# Altium schematic symbol library Diode (2).SchLib: 11 symbols
Pins are listed as number, name and electrical type; pins without a type are passive.

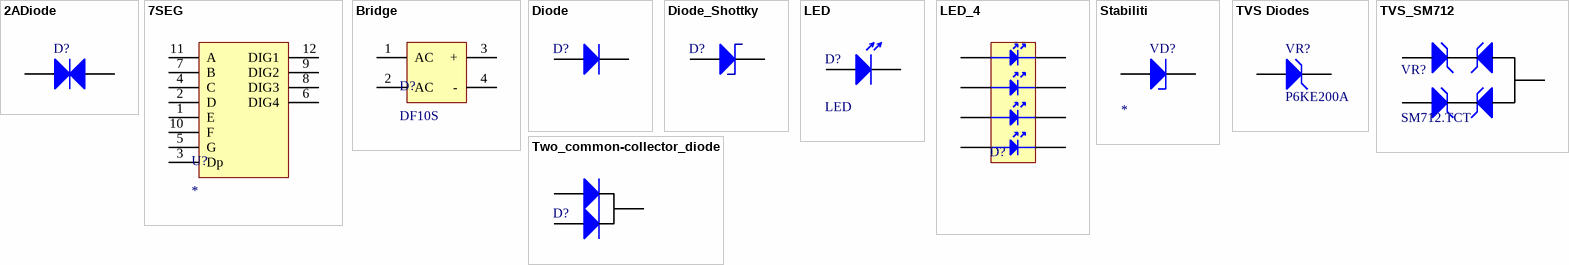
[diagram p0: symbols 2ADiode to Two_common-collector_diode]

## 2ADiode
designator D?, comment 2Anode_Diode  (value not drawn)
Diode; Value: 1.5KE400CA; Published: 8-Jun-2000; LatestRevisionDate: 17-Jul-2002; LatestRevisionNote: Re-released for DXP Platform.; PackageVersion: Aug-1999; PackageReference: DO-41; Publisher: Altium Limited; PackageDescription: Diode, Axial; Body 5.2 x 2.7 mm (LxDia. max), Lead Dia. 0.86 mm (max); Code_JEDEC: DO-204-AL; ComponentLink1Description: Manufacturer Link; ComponentLink1URL: http://www.fairchildsemi.com/; ComponentLink2URL: http://www.fairchildsemi.com/ds/1N%2F1N4001.pdf; ComponentLink2Description: Datasheet; DatasheetVersion: 1998
simulation model 1N4001 (DIODE)
signal-integrity model 1N4001
footprint 1.5KE400CA
footprint KC213
pins: 1, 2

## 7SEG
designator U?
footprint 7seg_GNQ-5641
footprint 7seg_GNT-2831BD
pins: 1 E, 2 D, 3 Dp, 4 C, 5 G, 6 DIG4, 7 B, 8 DIG3, 9 DIG2, 10 F, 11 A, 12 DIG1

## Bridge
designator D?, comment DF10S
Bridge; Value: DF10S
footprint D_MB10S
footprint D_1000V_10A
footprint D_BR1010
footprint D_DF10S
footprint D_GBJ
footprint W10G
pins: 1 AC, 2 AC, 3 +, 4 -

## Diode
designator D?
Diode; Published: 8-Jun-2000; LatestRevisionDate: 17-Jul-2002; LatestRevisionNote: Re-released for DXP Platform.; PackageVersion: Aug-1999; PackageReference: DO-41; Publisher: Altium Limited; PackageDescription: Diode, Axial; Body 5.2 x 2.7 mm (LxDia. max), Lead Dia. 0.86 mm (max); Code_JEDEC: DO-204-AL; ComponentLink1Description: Manufacturer Link; ComponentLink1URL: http://www.fairchildsemi.com/; ComponentLink2URL: http://www.fairchildsemi.com/ds/1N%2F1N4001.pdf; ComponentLink2Description: Datasheet; DatasheetVersion: 1998
simulation model 1N4001 (DIODE)
signal-integrity model 1N4001
footprint 150EBU04
footprint D_0805
footprint D_1206 (MELF Diode, 2-Leads, Body 3,5x1,7mm, IPC Medium Density)
footprint HFA15TB60PBF
footprint KC213
footprint SMA_diode (Molded Diode, 2-Leads, Body 4,3x2,6mm, IPC Medium Density)
footprint DO-41
footprint SOD-80
footprint SMC_diode
footprint D2PAK
footprint SMB_diode (Molded Diode, 2-Leads, Body 4,3x2,6mm, IPC Medium Density)
footprint 1.5KE400CA
footprint DO-15
footprint DO-201AD
footprint DO-201AE
footprint DO-204
footprint SOD-923
footprint SOT-23_D (SOT23, 3-Leads, Body 3,0x2,6mm (max), Pitch 0,95mm, IPC Medium Density)
pins: a A, k K

## Diode_Shottky
designator D?
Diode; Published: 8-Jun-2000; LatestRevisionDate: 17-Jul-2002; LatestRevisionNote: Re-released for DXP Platform.; PackageVersion: Aug-1999; PackageReference: DO-41; Publisher: Altium Limited; PackageDescription: Diode, Axial; Body 5.2 x 2.7 mm (LxDia. max), Lead Dia. 0.86 mm (max); Code_JEDEC: DO-204-AL; ComponentLink1Description: Manufacturer Link; ComponentLink1URL: http://www.fairchildsemi.com/; ComponentLink2URL: http://www.fairchildsemi.com/ds/1N%2F1N4001.pdf; ComponentLink2Description: Datasheet; DatasheetVersion: 1998
signal-integrity model 1N4001
footprint D_0805
footprint D_1206 (MELF Diode, 2-Leads, Body 3,5x1,7mm, IPC Medium Density)
footprint SMA_diode (Molded Diode, 2-Leads, Body 4,3x2,6mm, IPC Medium Density)
footprint SOD-80
footprint SOT-23_D (SOT23, 3-Leads, Body 3,0x2,6mm (max), Pitch 0,95mm, IPC Medium Density)
footprint SOD-923
footprint SMB_diode (Molded Diode, 2-Leads, Body 4,3x2,6mm, IPC Medium Density)
footprint D2PAK
footprint TO-247
pins: a A, k K

## LED
designator D?
Published: 8-Jun-2000; LatestRevisionDate: 17-Jul-2002; LatestRevisionNote: Re-released for DXP Platform.; PackageVersion: Aug-1999; PackageReference: DO-41; Publisher: Altium Limited; PackageDescription: Diode, Axial; Body 5.2 x 2.7 mm (LxDia. max), Lead Dia. 0.86 mm (max); Code_JEDEC: DO-204-AL; ComponentLink1Description: Manufacturer Link; ComponentLink1URL: http://www.fairchildsemi.com/; ComponentLink2URL: http://www.fairchildsemi.com/ds/1N%2F1N4001.pdf; ComponentLink2Description: Datasheet; DatasheetVersion: 1998
footprint LED_0805
pins: a A, k K

## LED_4
designator D?
LED; Published: 8-Jun-2000; LatestRevisionDate: 17-Jul-2002; LatestRevisionNote: Re-released for DXP Platform.; PackageVersion: Aug-1999; PackageReference: DO-41; Publisher: Altium Limited; PackageDescription: Diode, Axial; Body 5.2 x 2.7 mm (LxDia. max), Lead Dia. 0.86 mm (max); Code_JEDEC: DO-204-AL; ComponentLink1Description: Manufacturer Link; ComponentLink1URL: http://www.fairchildsemi.com/; ComponentLink2URL: http://www.fairchildsemi.com/ds/1N%2F1N4001.pdf; ComponentLink2Description: Datasheet; DatasheetVersion: 1998
footprint LED
pins: 1 A, 2 A, 3 A, 4 A, 5 A, 6 A, 7 A, 8 A

## Stabiliti
designator VD?
Stabiliti; Published: 8-Jun-2000; LatestRevisionDate: 17-Jul-2002; LatestRevisionNote: Re-released for DXP Platform.; PackageVersion: Aug-1999; PackageReference: DO-41; Publisher: Altium Limited; PackageDescription: Diode, Axial; Body 5.2 x 2.7 mm (LxDia. max), Lead Dia. 0.86 mm (max); Code_JEDEC: DO-204-AL; ComponentLink1Description: Manufacturer Link; ComponentLink1URL: http://www.fairchildsemi.com/; ComponentLink2URL: http://www.fairchildsemi.com/ds/1N%2F1N4001.pdf; ComponentLink2Description: Datasheet; DatasheetVersion: 1998; Value: *; Power: *
simulation model 1N4001 (DIODE)
signal-integrity model 1N4001
footprint SOT-23 (SOT23, 3-Leads, Body 3,0x2,6mm (max), Pitch 0,95mm, IPC Medium Density)
footprint D_1206 (MELF Diode, 2-Leads, Body 3,5x1,7mm, IPC Medium Density)
footprint SOD-80
footprint DO-204
footprint DO-41
pins: a A, k K

## TVS Diodes
designator VR?, comment P6KE200A
TVS Diodes - Transient Voltage Suppressors 600W 200V Unidirect; Capacitance: 350 pF; Peak Surge Current: 11.3 A; Clamping Voltage: 353 V; Operating Voltage: 171 V; Published: 8-Jun-2000; LatestRevisionDate: 17-Jul-2002; LatestRevisionNote: Re-released for DXP Platform.; PackageReference: DIODE-0.7; Publisher: Altium Limited; PackageDescription: Diode, Thru-Hole; 2 Leads; 0.7 in Pin Spacing; Value: P6KE200A; Category: TVS Diodes - Transient Voltage Suppressors; Manufacturer Part Number: P6KE200A; Peak Pulse Power Dissipation: 600 W; Minimum Operating Temperature: - 65 C; Maximum Operating Temperature: + 175 C; Mounting Style: Through Hole; Termination Style: Axial; Dimensions: 3.53 mm Dia. x 3.53 mm W x 6.75 mm L; Package / Case: DO-204AC; Product Category: Voltage Protection Devices
simulation model ZENER (Diode)
signal-integrity model D Zener
footprint DO-15
footprint DO-201AE
footprint DO-204
pins: a A, k K

## TVS_SM712
designator VR?, comment SM712.TCT
TVS DIODE 12VWM/7VWM SOT23; Peak Pulse Current: 17A; Clamping Voltage: 26V; Direction: Bidirectional; Max Power Dissipation: 400W; Voltage Rating (DC): 12V; Max Breakdown Voltage: 13.3V; Depth: 1.3mm; Manufacturer Part Number: SM712.TCT; Min Operating Temperature: -55°C; Max Operating Temperature: 125°C; Peak Pulse Power: 400W; Breakdown Voltage: 13.3V; Case/Package: SOT-23
footprint SOT-23 (SOT23, 3-Leads, Body 3,0x2,6mm (max), Pitch 0,95mm, IPC Medium Density)
pins: 1, 2, 3

## Two_common-collector_diode
designator D?, comment 2_C-C_Diode  (value not drawn)
Diode; Value: MBR2045CTG; Published: 8-Jun-2000; LatestRevisionDate: 17-Jul-2002; LatestRevisionNote: Re-released for DXP Platform.; PackageVersion: Aug-1999; PackageReference: DO-41; Publisher: Altium Limited; PackageDescription: Diode, Axial; Body 5.2 x 2.7 mm (LxDia. max), Lead Dia. 0.86 mm (max); Code_JEDEC: DO-204-AL; ComponentLink1Description: Manufacturer Link; ComponentLink1URL: http://www.fairchildsemi.com/; ComponentLink2URL: http://www.fairchildsemi.com/ds/1N%2F1N4001.pdf; ComponentLink2Description: Datasheet; DatasheetVersion: 1998
simulation model 1N4001 (DIODE)
signal-integrity model 1N4001
footprint TO-220
pins: a1 A, a2 A, k K